# Altium footprint library MaWei.PcbLib: 84 footprints (part 6 of 6)
Each footprint in its own frame and in the unit in brackets; x right, y up, seen from the top. Pads: shape width x height; smd on the part's side, far side on the other; paste and mask are expansions set on the pad; w line width, h text height; cw(c..) or ccw(c..) is an arc to the next point about the centre after c.
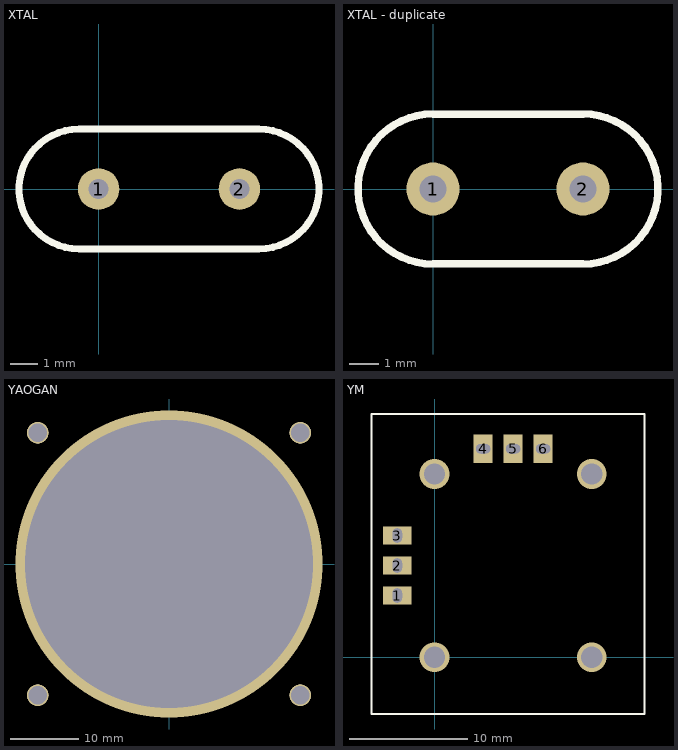
[diagram p5: the footprints below, top view; thin cyan lines are the x and y axes]

## XTAL [mm] "XTAL"
pads (2):
  round 1.5 hole 0.72: 1(0,0) 2(5.08,0)
Top Overlay:
  lines w0.254: -0.711,-2.159 cw(c-0.711,0) -0.711,2.159 5.791,2.159 cw(c5.791,0) 5.791,-2.159 -0.711,-2.159
3D body: height 3.09, standoff -2.54, extent -2.794,-1.524 7.874,1.524

## XTAL - duplicate [mm]
height 4
pads (2):
  round 1.8 hole 0.9: 1(0,0) 2(5.08,0)
Top Overlay:
  lines w0.254: 0,-2.54 cw(c0,0) 0,2.54 5.08,2.54 cw(c5.08,0) 5.08,-2.54 0,-2.54

## YAOGAN [mm]
via -19.25,19.25 diameter 3.1 hole 2.7
via -19.25,-19.25 diameter 3.1 hole 2.7
via 19.25,-19.25 diameter 3.1 hole 2.7
via 19.25,19.25 diameter 3.1 hole 2.7
via 0,0 diameter 45 hole 42.3
Top Overlay:
  circle w0.4: c-19.25,19.25 r1.35
  circle w0.4: c-19.25,-19.25 r1.35
  circle w0.4: c19.25,-19.25 r1.35
  circle w0.4: c19.25,19.25 r1.35
  circle w0.4: c0,0 r22

## YM [mm]
pads (6):
  rect 2.4x1.5 hole 0.8 slot 1.2 at 90 deg: 1(-3.15,5.232) 2(-3.15,7.772) 3(-3.15,10.312)
  rect 1.6x2.4 hole 0.8 slot 1.2 at 0 deg: 4(4.115,17.653) 5(6.655,17.653) 6(9.195,17.653)
via 0,15.519 diameter 2.5 hole 1.8
via 0,0 diameter 2.5 hole 1.8
via 13.31,0 diameter 2.5 hole 1.8
via 13.31,15.519 diameter 2.5 hole 1.8
Top Overlay:
  lines w0.2: -5.334,-4.801 -5.334,20.599 17.78,20.599 17.78,-4.801 -5.334,-4.801